# Altium footprint library FootprintsPersonals.PcbLib: 152 footprints (part 5 of 10)
Each footprint in its own frame and in the unit in brackets; x right, y up, seen from the top. Pads: shape width x height; smd on the part's side, far side on the other; paste and mask are expansions set on the pad; w line width, h text height; cw(c..) or ccw(c..) is an arc to the next point about the centre after c.
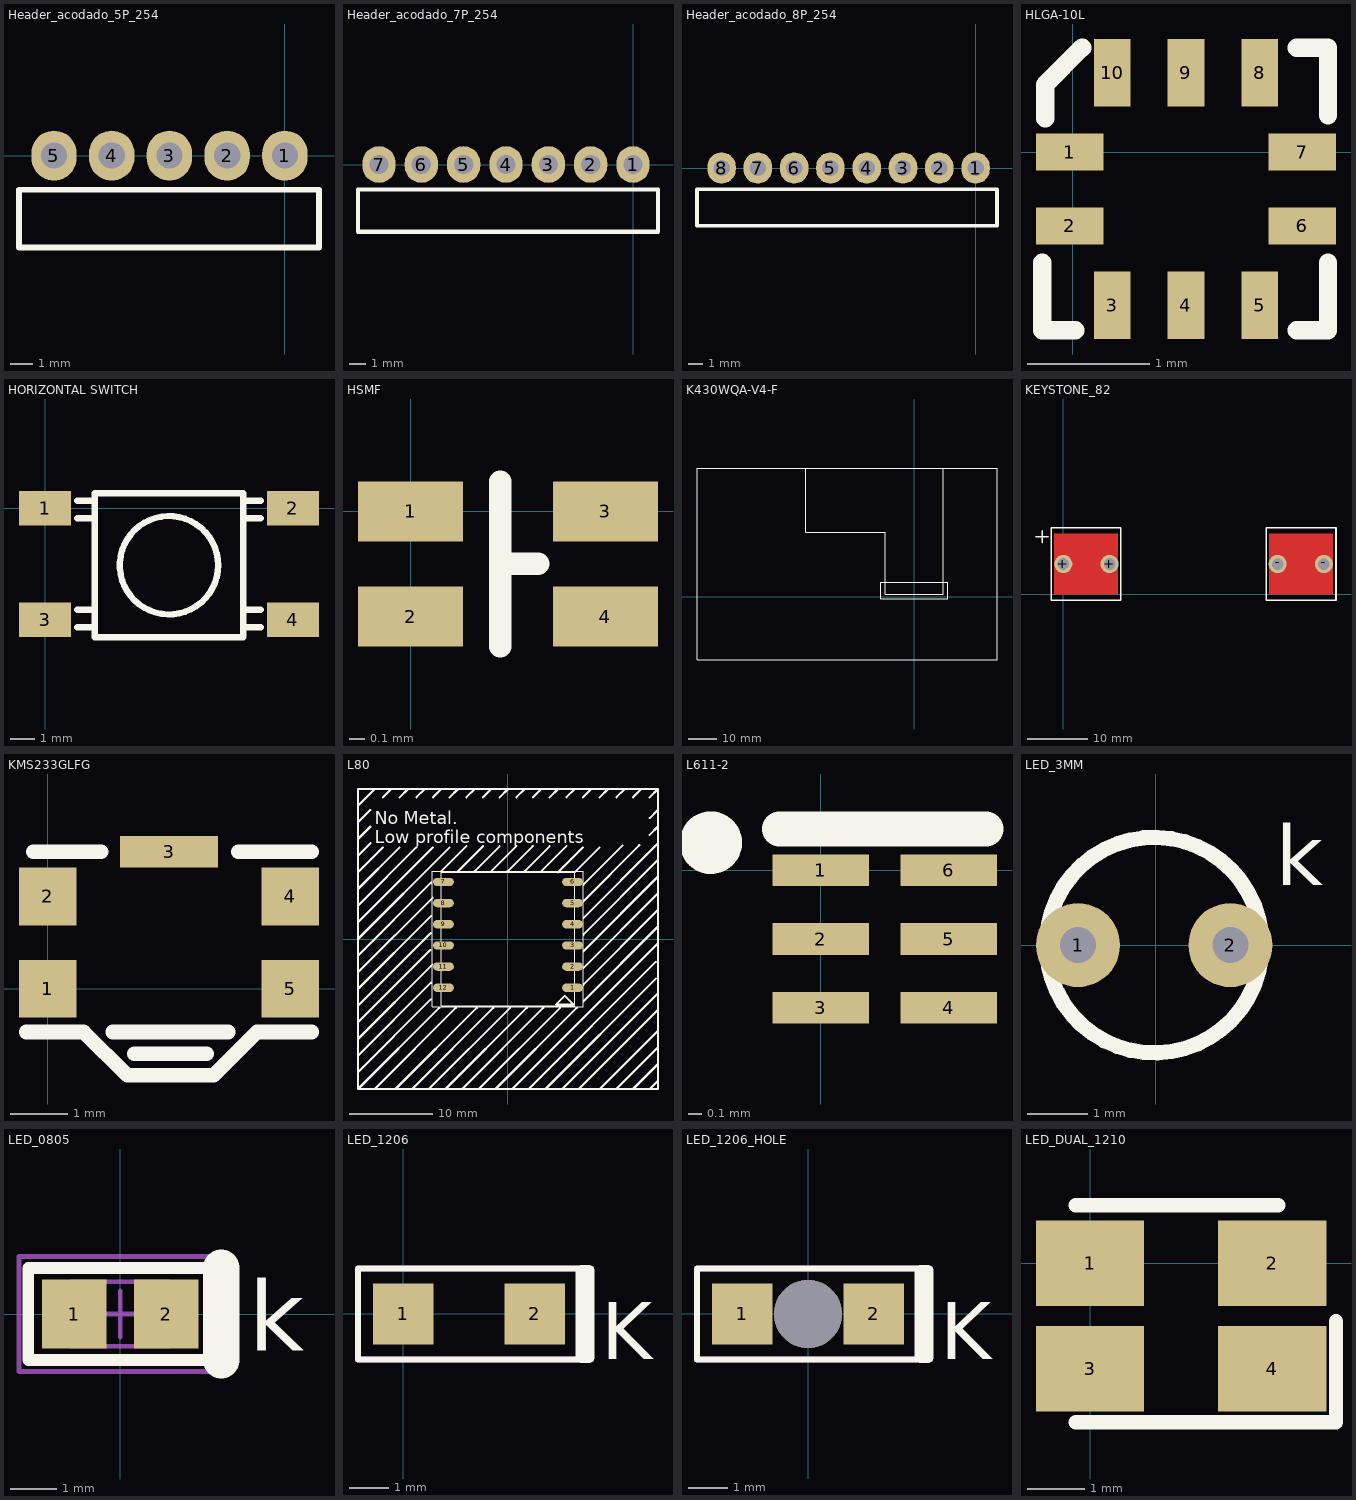
[diagram p4: the footprints below, top view; thin cyan lines are the x and y axes]

## Header_acodado_5P_254 [mm]
pads (5):
  oval 2x2.2 hole 1.15: 1(0,0) 2(-2.54,0) 3(-5.08,0) 4(-7.62,0) 5(-10.16,0)
Top Overlay:
  lines w0.254: -11.7,-4.04 -11.7,-1.5 1.5,-1.5 1.5,-4.04 -11.7,-4.04
3D body "Download_STP_61300511021.stp": height 2.55, standoff -2.99, extent -11.55,-9.97 1.15,0.39

## Header_acodado_7P_254 [mm]
pads (7):
  oval 2x2.2 hole 1.15: 1(0,0) 2(-2.54,0) 3(-5.08,0) 4(-7.62,0) 5(-10.16,0) 6(-12.7,0) 7(-15.24,0)
Top Overlay:
  lines w0.254: -16.5,-4.04 1.5,-4.04 1.5,-1.5 -16.5,-1.5 -16.5,-4.04
3D body "Download_STP_61300711021.stp": height 2.54, standoff -3, extent -16.49,-9.97 1.29,0.39

## Header_acodado_8P_254 [mm]
pads (8):
  oval 2x2.2 hole 1.15: 1(0,0) 2(-2.54,0) 3(-5.08,0) 4(-7.62,0) 5(-10.16,0) 6(-12.7,0) 7(-15.24,0) 8(-17.78,0)
Top Overlay:
  lines w0.254: -19.5,-4.04 1.5,-4.04 1.5,-1.5 -19.5,-1.5 -19.5,-4.04

## HLGA-10L [mm]
pads (10):
  rect 0.55x0.3 smd: 1(-0.025,0) 2(-0.025,-0.6) 6(1.865,-0.6) 7(1.865,0)
  rect 0.3x0.55 smd: 3(0.32,-1.245) 4(0.92,-1.245) 5(1.52,-1.245) 8(1.52,0.645) 9(0.92,0.645) 10(0.32,0.645)
Top Overlay:
  lines w0.15: -0.25,-0.9 -0.25,-1.45 0.02,-1.45 ; -0.225,0.275 -0.225,0.525 -0.225,0.55 0.075,0.85 ; 1.82,-1.45 2.075,-1.45 2.075,-0.9 ; 1.82,0.85 2.075,0.85 2.075,0.3

## HORIZONTAL SWITCH [mm] "INTERRUPTOR, SMD, EMPUJAR, T/R DE 5 MM"
height 5
pads (4):
  rect 2.1x1.4 smd: 1(0,0) 2(10,0) 3(0,-4.5) 4(10,-4.5)
Top Overlay:
  circle w0.254: c5,-2.3 r1.985
  lines w0.254: 1.3,-4.8 2,-4.8 ; 1.3,-4.1 2,-4.1 ; 1.3,-0.4 2,-0.4 ; 1.3,0.3 2,0.3 ; 8,-4.8 8.7,-4.8 ; 8,-4.1 8.7,-4.1 ; 8,-0.4 8.7,-0.4 ; 8,0.3 8.7,0.3 ; 2,-5.2 2,0.6 8,0.6 8,-5.2 2,-5.2

## HSMF [mm] "SMD BICOLOR LED"
pads (4):
  rect 0.7x0.4 smd: 1(0,0) 2(0,-0.7) 3(1.3,0) 4(1.3,-0.7)
Top Overlay:
  lines w0.15: 0.6,-0.9 0.6,0.2 ; 0.6,-0.35 0.85,-0.35

## K430WQA-V4-F [mm]
Top Overlay:
  lines w0.254: -38.25,41.5 -38.25,41.625 ; -38.25,43 -38.25,43.125 ; -38.25,44.5 -38.25,44.625 ; -38.25,45.375 -38.25,22.875 -10.25,22.875 -10.25,0.875 10.25,0.875 10.25,45.375 ; -76.75,-22.125 29.25,-22.125 29.25,45.375 -76.75,45.375 -76.75,-22.125 ; -11.782,-0.609 11.84,-0.609 11.84,5.106 -11.782,5.106 -11.782,-0.609

## KEYSTONE_82 [mm] "AAA Battery Clip"
height 14
pads (4):
  round 3 hole 1.9: +(0,5) +(7.62,5) -(35.316,4.997) -(42.936,4.997)
Top Layer:
  rectangle: -1.5,0 9,10
  region: 44.436,9.997 33.936,9.997 33.936,-0.003 44.436,-0.003
Top Overlay:
  lines w0.254: -4.5,9.5 -2.5,9.5 ; -3.5,8.5 -3.5,10.5 ; -2,-1 -2,11 9.5,11 9.5,-1 -2,-1 ; 33.436,-1 44.936,-1 44.936,11 33.436,11 33.436,-1
3D body "keystone-PN82.STEP": height 13.05, standoff -4.01, extent -1.566,-0.1 7.366,10.094
3D body "keystone-PN82.STEP": height 13.05, standoff -4.01, extent 35.57,-0.097 44.502,10.097

## KMS233GLFG [mm] "SWITCH, SPST-NO, 2N, 0.1A, 32VDC"
pads (5):
  rect 1x1 smd: 1(0,0) 2(0,1.6) 4(4.2,1.6) 5(4.2,0)
  rect 1.7x0.55 smd: 3(2.1,2.375)
Top Overlay:
  lines w0.254: -0.375,-0.75 0.625,-0.75 1.375,-1.5 2.875,-1.5 3.625,-0.75 4.575,-0.75 ; -0.25,2.375 0.925,2.375 ; 1.125,-0.75 3.125,-0.75 ; 1.5,-1.125 2.75,-1.125 ; 3.3,2.375 4.575,2.375

## L80 [mm]
pads (12):
  oval 2.5x1 smd: 1(7.75,-5.85) 2(7.75,-3.31) 3(7.75,-0.77) 4(7.75,1.77) 5(7.75,4.31) 6(7.75,6.85) 7(-7.75,6.85) 8(-7.75,4.31) 9(-7.75,1.77) 10(-7.75,-0.77) 11(-7.75,-3.31) 12(-7.75,-5.85)
Top Layer:
  rectangle: 5,-7.7 6,-7.7
Top Overlay:
  lines w0.1: -9.1,-8.15 -9.1,8.15 9.05,8.15 9.05,-8.15 -9.1,-8.15 ; -8,-8 8,-8 8,8 -8,8 -8,-8
  lines w0.254: -18,-16 -9.25,-7.25 ; -18,-14 -9.25,-5.25 ; -18,-12 -9.05,-3.05 ; -18,-10 -9.3,-1.3 ; -18,-6 -9.25,2.75 ; -18,-4 -9.05,4.95 ; -18,-2 -9.25,6.75 ; -18,0 -7,11 ; -18,2 -9,11 ; -18,4 -11,11 ; -18,6 -13,11 ; -18,8 -15,11 ; -18,10 -16.5,11.5 ; -18,14 -16.5,15.5 ; -18,16 -16,18 ; -16.5,13.5 -18,12 ; -16,-18 -6.25,-8.25 ; -15,17 -14,18 ; -13.5,-18 -3.75,-8.25 ; -13,17 -12,18 ; -11.5,-18 -1.75,-8.25 ; -11,17 -10,18 ; -9.5,-18 0.25,-8.25 ; -9.3,0.7 -18,-8 ; -9,17 -8,18 ; -8.25,-8.25 -18,-18 ; -8,8.15 -5,11.15 ; -7.5,-18 2.25,-8.25 ; -7,17 -6,18 ; -6,8.15 -3,11.15 ; -5.5,-18 4.25,-8.25 ; -5,17 -4,18 ; -4,8.15 -1,11.15 ; -3.5,-18 6.25,-8.25 ; -3,17 -2,18 ; -2,8.15 1,11.15 ; -1.5,-18 8.25,-8.25 ; -1,17 0,18 ; -0.025,8.15 2.975,11.15 ; 0.5,-18 18,-0.5 ; 1,17 2,18 ; 2,8.15 5,11.15 ; 2.5,-18 17.75,-2.75 ; 3,17 4,18 ; 4,8.15 7,11.15 ; 4.5,-18 17.75,-4.75 ; 5,17 6,18 ; 6,8 9,11 ; 6.5,-18 18,-6.5 ; 7,17 8,18 ; 8,8 11,11 ; 8.5,-18 18,-8.5 ; 9,17 10,18 ; 9.05,-7.5 18,1.5 ; 9.05,-5.5 18,3.5 ; 9.05,-3.5 18,5.5 ; 9.05,-1.5 18,7.5 ; 9.05,0.5 18,9.5 ; 9.05,2.5 18,11.5 ; 9.05,4.5 15.757,11.244 ; 9.05,6.5 13.763,11.239 ; 11,-18 18,-11 ; 11,17 12,18 ; 13,-18 18,-13 ; 13,17 14,18 ; 15,-18 18,-15 ; 15,17 16,18 ; 17,-18 18,-17 ; 17,12.5 18,13.5 ; 17,14.5 18,15.5 ; 17,17 18,18 ; -18,-18 18,-18 18,18 ; -18,-18 -18,-8 ; -18,-8 -18,18 18,18 ; -18,12 -18,12 ; 5.788,-7.842 6.804,-6.826 7.82,-7.842 5.788,-7.842
  text "No Metal.  / Low profile components" at -16,11.5 h1.52
3D body: height 6.5, standoff 0, extent -9,-8 9,8

## L611-2 [mm]
pads (6):
  rect 0.7x0.23 smd: 1(0,0) 2(0,-0.5) 3(0,-1) 5(0.93,-0.5) 6(0.93,0)
  rect 0.7x0.23 smd mask+0.102: 4(0.93,-1)
Top Overlay:
  circle w0.254: c-0.8,0.2 r0.1
  lines w0.254: -0.3,0.3 1.2,0.3
3D body: height 0.8, standoff 0, extent -0.1,-1.3 1,0.3

## LED_3MM [mm]
pads (2):
  round 1.4 hole 0.6: 1(-1.3,0) 2(1.24,0)
Top Overlay:
  circle w0.254: c-0.03,0 r1.796
  text "k" at 2,1 h1
3D body: height 6.2, standoff 0, extent -1.497,-1.488 1.497,1.5

## LED_0805 [mm]
pads (2):
  rect 1.4x1.5 smd: 1(-1,0) 2(1,0)
Top Overlay:
  lines w0.254: 2.2,-1 -2,-1 -2,1 2.2,1
  lines w0.8: 2.2,-1 2.2,1
  text "k" at 2.8,-0.8 h1.52
Mechanical 13:
  lines w0.1: -1.075,-0.7 1.075,-0.7 1.075,0.7 -1.075,0.7 -1.075,-0.7
Mechanical 15:
  lines w0.1: -0.5,0 0.5,0 ; 0,-0.5 0,0.5 ; -2.2,-1.25 2.2,-1.25 2.2,1.25 -2.2,1.25 -2.2,-1.25
3D body: height 0.65, standoff 0, extent -1.075,-0.7 1.075,0.7

## LED_1206 [mil]
pads (2):
  rect 60x60 smd: 1(0,0) 2(130,0)
Top Overlay:
  region: 188.06,47.06 189.33,44 189.33,-44 188.06,-47.06 185,-48.33 175,-48.33 171.94,-47.06 170.67,-44 170.67,44 171.94,47.06 175,48.33 185,48.33
  lines w6: -45,-45 175,-45 175,45 -45,45 -45,-45
  text "K" at 196,-45 h56.25
Mechanical 1:
  lines w6: -45,-45 175,-45 175,45 -45,45 -45,-45
3D body: height 19.68, standoff 0, extent 0,-45.28 129.92,45
3D body: height 43.31, standoff 19.68, extent 33.46,-45.28 98.43,45

## LED_1206_HOLE [mil]
pads (2):
  rect 60x60 smd: 1(-65,0) 2(65,0)
via 0,0 diameter 66.93 hole 66.93
Top Overlay:
  region: 123.06,47.06 124.33,44 124.33,-44 123.06,-47.06 120,-48.33 110,-48.33 106.94,-47.06 105.67,-44 105.67,44 106.94,47.06 110,48.33 120,48.33
  lines w6: -110,-45 110,-45 110,45 -110,45 -110,-45
  text "K" at 131,-45 h56.25
  text ".Designator" at -94.45,44.38 h37.5
Mechanical 1:
  lines w6: -110,-45 110,-45 110,45 -110,45 -110,-45
  text ".Pattern" at -75,-18.38 h22.5
  text ".Comment" at -83.33,-80.63 h37.5
  text ".Designator" at -69.45,19.38 h37.5
Mechanical 3:
  lines w4: -12.5,0 ccw(c0,0) 0,-12.5 ccw(c0,0) 12.5,0 ccw(c0,0) 0,12.5 ccw(c0,0) -12.5,0
3D body: height 0, standoff -33.46, extent -12.48,-12.48 12.48,12.48
3D body: height 9.84, standoff 0, extent -78.74,-39.37 78.74,39.37

## LED_DUAL_1210 [mm]
pads (4):
  rect 1.9x1.5 smd: 1(0,0) 2(3.2,0) 3(0,-1.85) 4(3.2,-1.85)
Top Overlay:
  lines w0.254: -0.254,-2.794 3.302,-2.794 4.318,-2.794 4.318,-1.016 ; -0.254,1.016 3.302,1.016
3D body: height 0.7, standoff 0.3, extent 0.4,-2.8 2.8,1.05
3D body: height 0.3, standoff 0, extent -0.5,-2.8 3.75,1.05